# Altium schematic symbol library MAX3490ESA&plus_.SchLib: 1 symbol
Pins are listed as number, name and electrical type; pins without a type are passive.

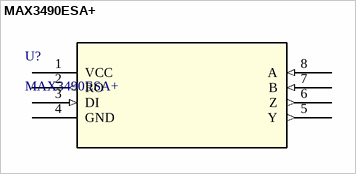
[diagram p0: symbol MAX3490ESA+]

## MAX3490ESA+
designator U?
3.3V Powered, 10Mbps and Slew-Rate Limited, True RS-485/RS-422 Transceivers; Manufacturer_Name: Analog Devices Inc; Copyright: Copyright (C) 2026 Ultra Librarian. All rights reserved.; Manufacturer_Part_Number: MAX3490ESA+; RefDes: RefDes; Type: Type
footprint 21-0041B_8_MXM
pins: 1 VCC (power), 2 RO (out), 3 DI (in), 4 GND (power), 5 Y (out), 6 Z (out), 7 B (in), 8 A (in)